# EAGLE library part ADXL354CEZ-RL7 (library ADXL354CEZ-RL7)
Accelerometer Triple +/-2g/+/-8g 3.3V 368mv/g to 432mv/g/92mv/g to 108mv/g 14-Pin CLLCC T/R Source: Datasheet <https://www.analog.com/media/en/technical-documentation/data-sheets/ADXL354_355.pdf>
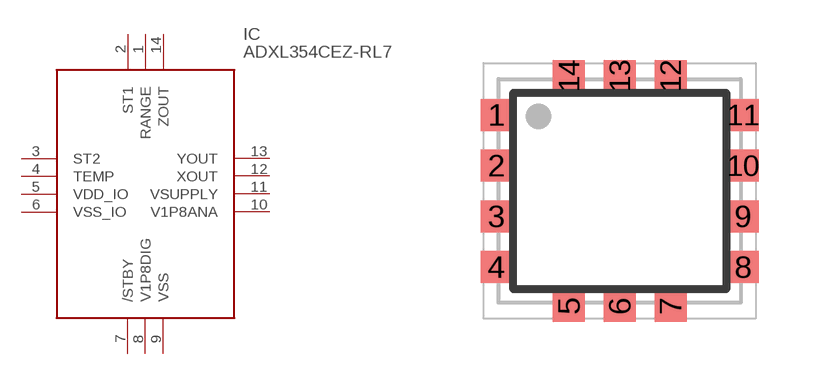
[diagram p0: symbol with the pads of PLCC127P602X560X205-14N; footprint PLCC127P602X560X205-14N]

Designator prefix IC

## ADXL354CEZ-RL7 (DESCRIPTION: Accelerometer Triple +/-2g/+/-8g 3.3V 368mv/g to 432mv/g/92mv/g to 108mv/g 14-Pin CLLCC T/R; HEIGHT: 2.05mm; MANUFACTURER_NAME: Analog Devices; MANUFACTURER_PART_NUMBER: ADXL354CEZ-RL7)  [PLCC127P602X560X205-14N]
1  RANGE
2  ST1
3  ST2
4  TEMP
5  VDD_IO
6  VSS_IO
7  /STBY
8  V1P8DIG
9  VSS
10  V1P8ANA
11  VSUPPLY
12  XOUT
13  YOUT
14  ZOUT

## Footprint PLCC127P602X560X205-14N (pad centres in mm)
14-Terminal LCC
smd 0.8 x 0.8: 1 -3.081,1.905; 2 -3.081,0.635; 3 -3.081,-0.635; 4 -3.081,-1.905; 5 -1.27,-2.881; 6 0,-2.881; 7 1.27,-2.881; 8 3.081,-1.905; 9 3.081,-0.635; 10 3.081,0.635; 11 3.081,1.905; 12 1.27,2.881; 13 0,2.881; 14 -1.27,2.881